# Altium schematic symbol library Microchip_TC1264_3_3VDBTR.SchLib: 1 symbol
Pins are listed as number, name and electrical type; pins without a type are passive.

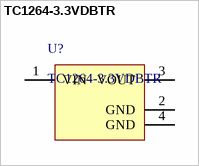
[diagram p0: symbol TC1264-3.3VDBTR]

## TC1264-3.3VDBTR
designator U?
800 mA Fixed-Output CMOS LDO with Shutdown, 3-Pin SOT-223, Extended Temperature, Tape and Reel; PackageVersion: revBB, Aug-2009; PackageReference: SOT-223-DB3; PackageDescription: 3-Lead Plastic Small Outline Transistor (DB) [SOT-223]; DatasheetVersion: revC, Oct-2006; PartNumber: TC1264-3.3VDBTR
footprint SOT-223-DB3_L
footprint SOT-223-DB3_N
footprint SOT-223-DB3_M
pins: 1 VIN (power), 2 GND (power), 3 VOUT (power), 4 GND (power)